# EAGLE library part ETHERNET_JACK (library anykey)
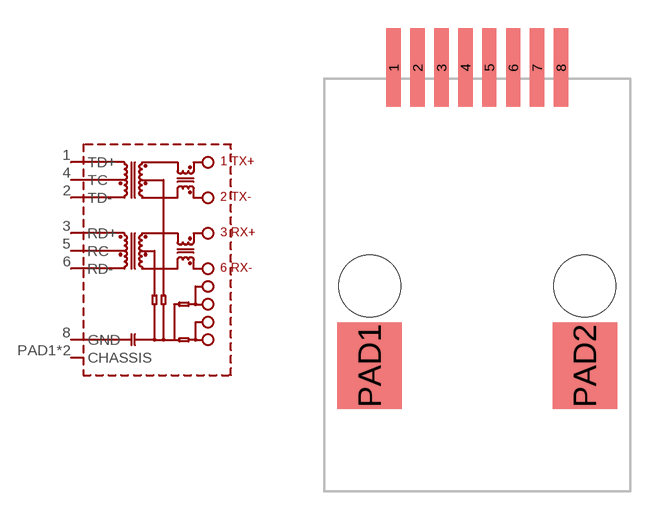
[diagram p43: symbol with the pads of PULSEJACK-J0C; footprint PULSEJACK-J0C]

Designator prefix P

## ETHERNET_JACKPULSEJACK  [PULSEJACK-J0C]
1  TD+
2  TD-
3  RD+
4  TC
5  RC
6  RD-
8  GND
PAD1  CHASSIS
PAD2  CHASSIS

## Footprint PULSEJACK-J0C (pad centres in mm)
SMD Ethernet jack with magnetics
smd 0.76 x 4.18: 1 -4.445,11.61; 2 -3.175,11.61; 3 -1.905,11.61; 4 -0.635,11.61; 5 0.635,11.61; 6 1.905,11.61; 7 3.175,11.61; 8 4.445,11.61
smd 3.425 x 4.58: PAD1 -5.715,-4.24; PAD2 5.715,-4.24
hole 3.3 at -5.715,0
hole 3.3 at 5.715,0